# EAGLE library part AUDIO-TDA8920TH (library Namenlos)
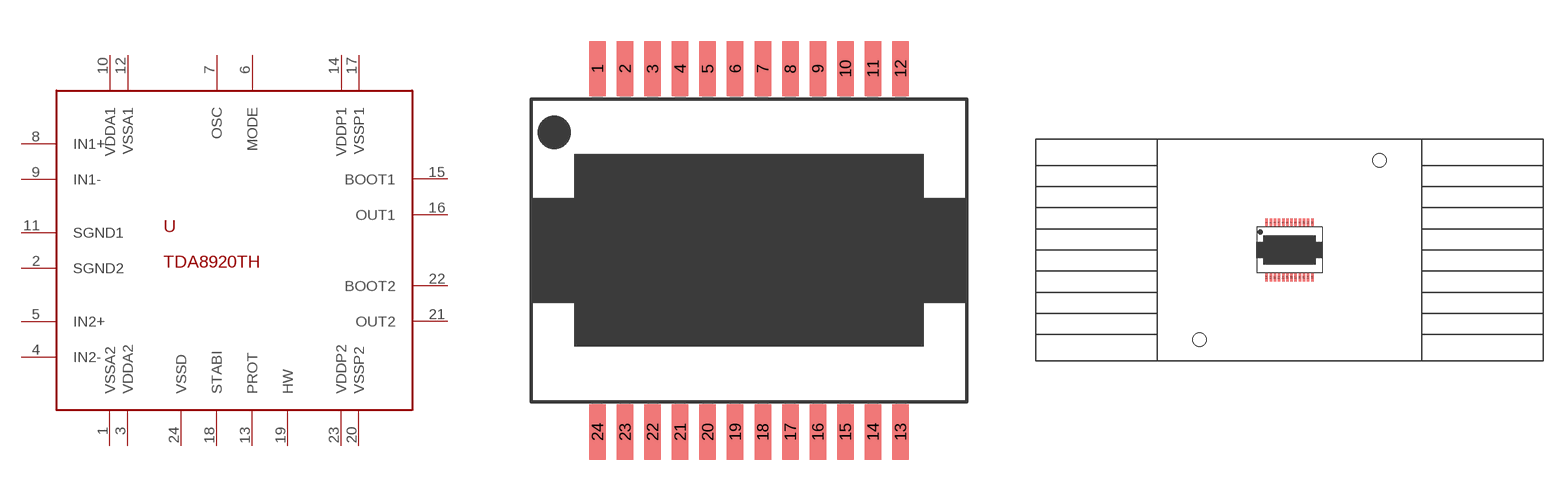
[diagram p15: symbol with the pads of HSOP24; footprints HSOP24, HSOP24_RADIATOR]

Designator prefix -

## AUDIO-TDA8920THCLEAR  [HSOP24]
1  VSSA2
2  SGND2
3  VDDA2
4  IN2-
5  IN2+
6  MODE
7  OSC
8  IN1+
9  IN1-
10  VDDA1
11  SGND1
12  VSSA1
13  PROT
14  VDDP1
15  BOOT1
16  OUT1
17  VSSP1
18  STABI
19  HW  nc
20  VSSP2
21  OUT2
22  BOOT2
23  VDDP2
24  VSSD

## AUDIO-TDA8920THHEATSINK  [HSOP24_RADIATOR]
Pads as for HSOP24

## AUDIO-TDA8920TH90HEAT  [HSOP24_90-RAD]
Pads as for HSOP24

## Footprint HSOP24 (pad centres in mm)
HSOP Package
smd 0.6 x 2: 1 -5.5,6.6; 2 -4.5,6.6; 3 -3.5,6.6; 4 -2.5,6.6; 5 -1.5,6.6; 6 -0.5,6.6; 7 0.5,6.6; 8 1.5,6.6; 9 2.5,6.6; 10 3.5,6.6; 11 4.5,6.6; 12 5.5,6.6; 13 5.5,-6.6; 14 4.5,-6.6; 15 3.5,-6.6; 16 2.5,-6.6; 17 1.5,-6.6; 18 0.5,-6.6; 19 -0.5,-6.6; 20 -1.5,-6.6; 21 -2.5,-6.6; 22 -3.5,-6.6; 23 -4.5,-6.6; 24 -5.5,-6.6

## Footprint HSOP24_RADIATOR (pad centres in mm)
smd 0.6 x 2: 1 -5.5,6.6; 2 -4.5,6.6; 3 -3.5,6.6; 4 -2.5,6.6; 5 -1.5,6.6; 6 -0.5,6.6; 7 0.5,6.6; 8 1.5,6.6; 9 2.5,6.6; 10 3.5,6.6; 11 4.5,6.6; 12 5.5,6.6; 13 5.5,-6.6; 14 4.5,-6.6; 15 3.5,-6.6; 16 2.5,-6.6; 17 1.5,-6.6; 18 0.5,-6.6; 19 -0.5,-6.6; 20 -1.5,-6.6; 21 -2.5,-6.6; 22 -3.5,-6.6; 23 -4.5,-6.6; 24 -5.5,-6.6
hole 3.2 at -21.59,-21.59
hole 3.2 at 21.59,21.59

## Footprint HSOP24_90-RAD (pad centres in mm)
smd 0.6 x 2: 1 -5.5,6.6; 2 -4.5,6.6; 3 -3.5,6.6; 4 -2.5,6.6; 5 -1.5,6.6; 6 -0.5,6.6; 7 0.5,6.6; 8 1.5,6.6; 9 2.5,6.6; 10 3.5,6.6; 11 4.5,6.6; 12 5.5,6.6; 13 5.5,-6.6; 14 4.5,-6.6; 15 3.5,-6.6; 16 2.5,-6.6; 17 1.5,-6.6; 18 0.5,-6.6; 19 -0.5,-6.6; 20 -1.5,-6.6; 21 -2.5,-6.6; 22 -3.5,-6.6; 23 -4.5,-6.6; 24 -5.5,-6.6
hole 3.2 at 21.59,-21.59
hole 3.2 at -21.59,21.59